# Altium integrated library Infineon_Power_Smart_Low-Side_&_High-Side_Switches.IntLib: 238 symbols (part 2 of 14)
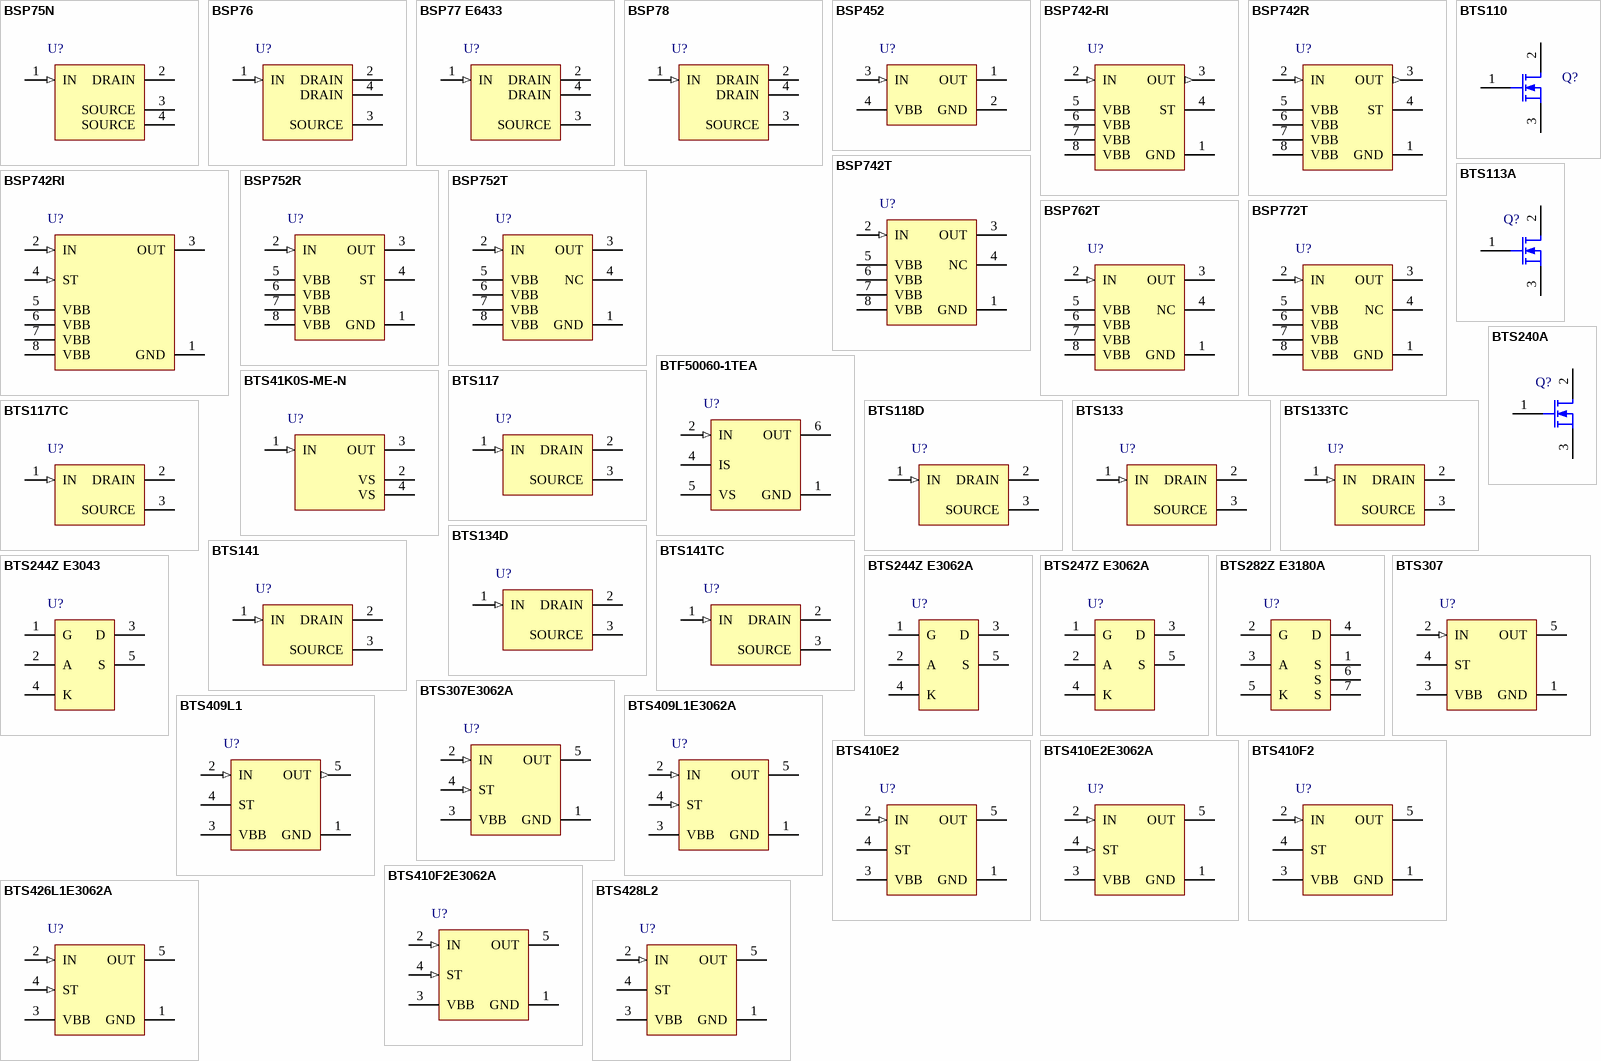
[diagram p8: symbols BSP75N to BTS428L2]

## BTS141TC
designator U?
Smart Low-Side Power Switch HITFET, 60 V VDS, 12 A ID, -40 to 150 degC, PG-TO263-3-2, Reel, Green; Manufacturer: Infineon; PartNumber: BTS141TC; Channels: 1; Green: TRUE; ID: 12 A; ID(nom): 5.1 A; ID(lim) (min): 25 A; ISC (max): 100 A; Ptot (max): 149 mW; RDS (on)(max): 30 mOhm; ton (max): 100 us; toff (max): 170 us; VDS (max): 60 V; DatasheetVersion: Rev. 1.0; PackageVersion: Jul-09; PackageReference: PG-TO263-3-2; PackageDescription: 3-Pin Plastic (Green) Transistor Single Outline Package, 10 x 9.25 mm Body, 2.54 mm Pitch; Supplier 1: Mouser; Supplier Part Number 1: 726-BTS141TC; Supplier 2: Digi-Key; Supplier Part Number 2: BTS141TCTR-ND; Supplier 3: Digi-Key; Supplier Part Number 3: BTS141TCCT-ND; Supplier 4: Digi-Key; Supplier Part Number 4: BTS141TCDKR-ND; Group: HITFET; Halogen-free: FALSE; Packing: Reel; Mounting Technology: Surface Mount; ComponentLink1Description: Manufacturer URL; ComponentLink1URL: http://www.infineon.com/; ComponentLink2Description: Datasheet; ComponentLink2URL: http://www.infineon.com/dgdl/BTS141TC_DS_10.pdf?folderId=db3a3043163797a6011667aa084c0e01&fileId=db3a3043242ebc9e01242f43f58b003e&location=en.Products.Automotive_ICs.Smart_High-_and_Low-Side_Switches.HITFET___TEMPFET__-_Smart_Low-Side_Switches.DATASHEET.BTS141TC_DS_10.pdf; ComponentLink3Description: Package Specification; ComponentLink3URL: http://www.infineon.com/dgdl/BTS141TC_DS_10.pdf?folderId=db3a3043163797a6011667aa084c0e01&fileId=db3a3043242ebc9e01242f43f58b003e&location=en.Products.Automotive_ICs.Smart_High-_and_Low-Side_Switches.HITFET___TEMPFET__-_Smart_Low-Side_Switches.DATASHEET.BTS141TC_DS_10.pdf
footprint INF-PG-TO263-3-2_N (DPAK, 3-Leads, Body 10x9.25mm, Pitch 2.54mm, IPC Medium Density)
footprint INF-PG-TO263-3-2_L (DPAK, 3-Leads, Body 10x9.25mm, Pitch 2.54mm, IPC High Density)
footprint INF-PG-TO263-3-2_M (DPAK, 3-Leads, Body 10x9.25mm, Pitch 2.54mm, IPC Low Density)
pins: 1 IN (in), 2 DRAIN (power), 3 SOURCE (power)

## BTS240A
designator Q?
TEMPFET, 50 V VDS, 58 A ID, -55 to 150 degC, PG-TO-218-3, Tube, Green; Manufacturer: Infineon; PartNumber: BTS240A; Channels: 1; Green: TRUE; ID: 58 A; ID(nom): 21 A; ISC (max): 147 A; Ptot (max): 170 W; RDS (on)(max): 18 mOhm; ton (max): 0.31 us; toff (max): 0.89 us; VDS (max): 50 V; DatasheetVersion: Rev. 1.2; PackageVersion: Jul-10; PackageReference: PG-TO-218-3; PackageDescription: 3-Pin Plastic (Green) Transistor Single Outline Package, 15 x 12.5 mm Body, 5.5 mm Pitch; Supplier 1: Mouser; Supplier Part Number 1: 726-BTS240A; Group: TEMPFET; Halogen-free: FALSE; Packing: Tube; Mounting Technology: Through Hole; ComponentLink1Description: Manufacturer URL; ComponentLink1URL: http://www.infineon.com/; ComponentLink2Description: Datasheet; ComponentLink2URL: http://www.infineon.com/dgdl/BTS240A-Data-Sheet-12.pdf?folderId=db3a304412b407950112b4365a5b65fc&fileId=db3a30433072cd8f0130ac1ef5e3260c&location=en.Products.Automotive_ICs.Smart_High-_and_Low-Side_Switches.HITFET___TEMPFET__-_Smart_Low-Side_Switches.DATASHEET.BTS240A-Data-Sheet-12.pdf; ComponentLink3Description: Package Specification; ComponentLink3URL: http://www.infineon.com/dgdl/BTS240A-Data-Sheet-12.pdf?folderId=db3a304412b407950112b4365a5b65fc&fileId=db3a30433072cd8f0130ac1ef5e3260c&location=en.Products.Automotive_ICs.Smart_High-_and_Low-Side_Switches.HITFET___TEMPFET__-_Smart_Low-Side_Switches.DATASHEET.BTS240A-Data-Sheet-12.pdf
footprint INF-PG-TO-218-3 (FM, 3-Leads, Body 15x4.9mm, Pitch 5.5mm)
pins: 1 G, 2 D, 3 S

## BTS244Z E3043
designator U?
N-Channel Speed TEMPFET, 55 V VDS, 35 A ID, -40 to 175 degC, PG-TO220-5, Tube, Green; Manufacturer: Infineon; PartNumber: BTS244Z E3043; Channels: 1; Green: TRUE; ID(nom): 35 A; Ptot (max): 170 W; RDS (on) (max): 13 mOhm; toff (max): 2.5 us; VDS (max): 55 V; DatasheetVersion: Rev. 1.4; PackageVersion: Oct-07; PackageReference: PG-TO220-5-12; PackageDescription: 5-Pin Plastic (Green) Transistor Single Outline Package, 10 x 9.25 mm Body, 1.7 mm Pitch; Supplier 1: Digi-Key; Supplier Part Number 1: BTS244Z E3043-ND; Halogen-free: TRUE; Mounting: THT; Packing: Tube; Mounting Technology: Through Hole; ComponentLink1Description: Manufacturer URL; ComponentLink1URL: http://www.infineon.com/; ComponentLink2Description: Datasheet; ComponentLink2URL: http://www.infineon.com/dgdl/BTS244Z_DS_14.pdf?folderId=db3a3043163797a6011667aa084c0e01&fileId=db3a3043405f2978014071c7a5c61ff2; ComponentLink3Description: Package Specification; ComponentLink3URL: http://www.infineon.com/cms/packages/Leaded_and_through-hole/P-PG-TO220/P-PG-TO220-5-12.html?__locale=en
footprint INF-PG-TO220-5-12 (FM, 5-Leads, Body 10x4.4mm, Pitch 1.7mm)
pins: 1 G "Gate", 2 A "Anode Temperature Sensor", 3 D "Drain", 4 K "Cathode Temperature Sensor", 5 S "Source"

## BTS244Z E3062A
designator U?
N-Channel Speed TEMPFET, 55 V VDS, 35 A ID, -40 to 175 degC, PG-TO263-5, Tube, Green; Manufacturer: Infineon; PartNumber: BTS244Z E3062A; Channels: 1; Green: TRUE; ID(nom): 35 A; Ptot (max): 170 W; RDS (on) (max): 13 mOhm; toff (max): 2.5 us; VDS (max): 55 V; DatasheetVersion: Rev. 1.4; PackageVersion: Dec-12; PackageReference: PG-TO263-5-2; PackageDescription: 5-Pin Plastic (Green) Transistor Single Outline Package, 10 x 9.25 mm Body, 1.7 mm Pitch; Supplier 1: Digi-Key; Supplier Part Number 1: BTS244Z E3062A-ND; Halogen-free: TRUE; Mounting: SMT; Packing: Tube; Mounting Technology: Surface Mount; ComponentLink1Description: Manufacturer URL; ComponentLink1URL: http://www.infineon.com/; ComponentLink2Description: Datasheet; ComponentLink2URL: http://www.infineon.com/dgdl/BTS244Z_DS_14.pdf?folderId=db3a3043163797a6011667aa084c0e01&fileId=db3a3043405f2978014071c7a5c61ff2; ComponentLink3Description: Package Specification; ComponentLink3URL: http://www.infineon.com/cms/packages/SMD_-_Surface_Mounted_Devices/P-PG-TO263/P-TO263-05-02.html?__locale=en
footprint INF-PG-TO263-5-2_N (DPAK, 5-Leads, Body 10x9.25mm, Pitch 1.7mm, IPC Medium Density)
footprint INF-PG-TO263-5-2_L (DPAK, 5-Leads, Body 10x9.25mm, Pitch 1.7mm, IPC High Density)
footprint INF-PG-TO263-5-2_M (DPAK, 5-Leads, Body 10x9.25mm, Pitch 1.7mm, IPC Low Density)
pins: 1 G "Gate", 2 A "Anode Temperature Sensor", 3 D "Drain", 4 K "Cathode Temperature Sensor", 5 S "Source"

## BTS247Z E3062A
designator U?
N-Channel Speed TEMPFET, 55 V VDS, 33 A ID, -40 to 175 degC, PG-TO263-5, Tube, Green; Manufacturer: Infineon; PartNumber: BTS247Z E3062A; Channels: 1; Green: TRUE; ID(nom): 33 A; Ptot (max): 120 W; RDS (on) (max): 18 mOhm; toff (max): 2.5 us; VDS (max): 55 V; DatasheetVersion: Rev. 1.4; PackageVersion: Dec-12; PackageReference: PG-TO263-5-2; PackageDescription: 5-Pin Plastic (Green) Transistor Single Outline Package, 10 x 9.25 mm Body, 1.7 mm Pitch; Supplier 1: Digi-Key; Supplier Part Number 1: BTS247Z E3062A-ND; Halogen-free: TRUE; Mounting: SMT; Packing: Tube; Mounting Technology: Surface Mount; ComponentLink1Description: Manufacturer URL; ComponentLink1URL: http://www.infineon.com/; ComponentLink2Description: Datasheet; ComponentLink2URL: http://www.infineon.com/dgdl/BTS247Z_DS_14.pdf?folderId=db3a3043163797a6011667aa084c0e01&fileId=db3a3043405f2978014071e40844207f; ComponentLink3Description: Package Specification; ComponentLink3URL: http://www.infineon.com/cms/packages/SMD_-_Surface_Mounted_Devices/P-PG-TO263/P-TO263-05-02.html?__locale=en
footprint INF-PG-TO263-5-2_N (DPAK, 5-Leads, Body 10x9.25mm, Pitch 1.7mm, IPC Medium Density)
footprint INF-PG-TO263-5-2_L (DPAK, 5-Leads, Body 10x9.25mm, Pitch 1.7mm, IPC High Density)
footprint INF-PG-TO263-5-2_M (DPAK, 5-Leads, Body 10x9.25mm, Pitch 1.7mm, IPC Low Density)
pins: 1 G "Gate", 2 A "Anode Temperature Sensor", 3 D "Drain", 4 K "Cathode Temperature Sensor", 5 S "Source"

## BTS282Z E3180A
designator U?
N-Channel Speed TEMPFET, 49 V VDS, 80 A ID, -40 to 175 degC, PG-TO263-7, Tube, Green; Manufacturer: Infineon; PartNumber: BTS282Z E3180A; Channels: 1; Green: TRUE; ID(nom): 80 A; Ptot (max): 300 mW; RDS (on) (max): 6.5 mOhm; toff (max): 2.5 us; VDS (max): 49 V; DatasheetVersion: Rev. 1.3; PackageVersion: May-07; PackageReference: PG-TO263-7-1; PackageDescription: 7-Pin Plastic (Green) Transistor Single Outline Package, 9.25 x 10 mm Body, 1.27 mm Pitch; Supplier 1: Digi-Key; Supplier Part Number 1: BTS282ZE3180AINTR-ND; Supplier 2: Digi-Key; Supplier Part Number 2: BTS282ZE3180AINCT-ND; Supplier 3: Digi-Key; Supplier Part Number 3: BTS282ZE3180AINDKR-ND; Halogen-free: TRUE; Mounting: SMT; Packing: Tube; Mounting Technology: Surface Mount; ComponentLink1Description: Manufacturer URL; ComponentLink1URL: http://www.infineon.com/; ComponentLink2Description: Datasheet; ComponentLink2URL: http://www.infineon.com/dgdl/BTS282Z_DS_13.pdf?folderId=db3a3043163797a6011667aa084c0e01&fileId=db3a3043405f2978014071d29660203c; ComponentLink3Description: Package Specification; ComponentLink3URL: http://www.infineon.com/dgdl/BTN8982TA-Data-Sheet-rev10-Infineon.pdf?folderId=db3a30431ff98815012060aedcd46179&fileId=db3a30433fa9412f013fbe32289b7c17&ack=t
footprint INF-PG-TO263-7-1_N (DPAK, 8-Leads, Body 10x9.25mm, Pitch 1.27mm, IPC Medium Density)
footprint INF-PG-TO263-7-1_L (DPAK, 8-Leads, Body 10x9.25mm, Pitch 1.27mm, IPC High Density)
footprint INF-PG-TO263-7-1_M (DPAK, 8-Leads, Body 10x9.25mm, Pitch 1.27mm, IPC Low Density)
pins: 1 S "Source", 2 G "Gate", 3 A "Anode Temperature Sensor", 4 D "Drain", 5 K "Cathode Temperature Sensor", 6 S "Source", 7 S "Source"

## BTS307
designator U?
Smart High-Side Power Switch, 1 Channel, 1.7 A Load Current, -40 to 150 degC, PG-TO220AB-5, Reel; Manufacturer: Infineon; PartNumber: BTS307; Channels: 1; Green: FALSE; Group: Automotive Qualified; Load Current (typ): 1.7 A; Ptot (max): 50 W; Recommended Operating Voltage Max.: 58 V; Recommended Operating Voltage Min.: 5.8 V; RON @ 25degreesC: 250 mOhm; RON(max) @ 150degreesC: 500 mOhm; toff (max): 70 us; ton (max): 80 us; PackageVersion: Oct-03; PackageReference: PG-TO220AB-5; PackageDescription: 5-Pin Plastic (Green) Transistor Single Outline Package, 9.9 x 9.2 mm Body, 1.7 mm Pitch; Halogen-free: FALSE; Packing: Reel; Mounting Technology: Through Hole; ComponentLink1Description: Manufacturer URL; ComponentLink1URL: http://www.infineon.com/; ComponentLink2Description: Datasheet; ComponentLink2URL: http://www.infineon.com/dgdl/BTS307_20030924.pdf?folderId=db3a30431ddc9372011e26863f92474e&fileId=db3a304331c8f8560131dcc5a8090e17&location=en.Products.Automotive_ICs.Smart_High-_and_Low-Side_Switches.PROFET__-_Smart_High_Side_Switches.DATASHEET.BTS307_20030924.pdf; ComponentLink3Description: Package Specification; ComponentLink3URL: http://www.infineon.com/dgdl/BTS409L1_20030925.pdf?folderId=db3a30431ddc9372011e26863f92474e&fileId=db3a304331c8f8560131dcc7f54e0e1c&sId=db3a30443d67b5ca013d7e6cd96d2ac8
footprint INF-PG-TO220AB-5 (FM, 5-Leads, Body 9.9x4.4mm, Pitch 1.7mm)
pins: 1 GND (power) "Logic ground", 2 IN (in) "Input, activates the power switch in case of logical high signal", 3 VBB (power) "Positive power supply voltage, the tab is shorted to this pin", 4 ST (oc) "Diagnostic feedback, low on failure", 5 OUT (power) "Output to the load"

## BTS307E3062A
designator U?
Smart High-Side Power Switch, 5.8 to 58 V, -40 to 150 degC, PG-TO263-5, Reel, Green; Manufacturer: Infineon; PartNumber: BTS307E3062A; Channels: 1; Diagnostic: Digital; Green: TRUE; IL (nom)min - all channels active: 1.4 A; IL (SCp): 10 A; Load Current (typ): 1.7 A; Ptot (max): 50 W; Recommended Operating Voltage Max.: 58 V; Recommended Operating Voltage Min.: 5.8 V; RON (max) @ Tj: 150degreesC=500 mOhm; RON @ Tj: 25degreesC=250 mOhm; toff (max): 70 us; ton (max): 80 us; PackageVersion: Dec-12; PackageReference: PG-TO263-5-2; PackageDescription: 5-Pin Plastic (Green) Transistor Single Outline Package, 10 x 9.25 mm Body, 1.7 mm Pitch; Mounting: SMT; Packing: Reel; Mounting Technology: Surface Mount; ComponentLink1Description: Manufacturer URL; ComponentLink1URL: http://www.infineon.com/; ComponentLink2Description: Datasheet; ComponentLink2URL: http://www.infineon.com/dgdl/BTS307_20131010.pdf?folderId=db3a30431400ef68011421b54e2e0564&fileId=5546d461463c1ac80146417eaf8870f6; ComponentLink3Description: Package Specification; ComponentLink3URL: http://www.infineon.com/cms/packages/SMD_-_Surface_Mounted_Devices/P-PG-TO263/P-TO263-05-02.html?__locale=en
footprint INF-PG-TO263-5-2_N (DPAK, 5-Leads, Body 10x9.25mm, Pitch 1.7mm, IPC Medium Density)
footprint INF-PG-TO263-5-2_L (DPAK, 5-Leads, Body 10x9.25mm, Pitch 1.7mm, IPC High Density)
footprint INF-PG-TO263-5-2_M (DPAK, 5-Leads, Body 10x9.25mm, Pitch 1.7mm, IPC Low Density)
pins: 1 GND (power) "Logic ground", 2 IN (in) "Input, activates the power switch in case of logical high signal", 3 VBB (power) "Positive power supply voltage, the tab is shorted to this pin", 4 ST (in) "Diagnostic feedback", 5 OUT (power) "Output to the load"

## BTS409L1
designator U?
Smart High-Side Power Switch, 1 Channel, 2.3 A Load Current, -40 to 150 degC, PG-TO220AB-5, Reel; Manufacturer: Infineon; PartNumber: BTS409L1; Channels: 1; Green: FALSE; Group: Automotive Qualified; Load Current (typ): 2.3 A; Recommended Operating Voltage Max.: 34 V; Recommended Operating Voltage Min.: 5 V; RON @ 25degreesC: 200 mOhm; toff (max): 400 us; PackageVersion: Oct-03; PackageReference: PG-TO220AB-5; PackageDescription: 5-Pin Plastic (Green) Transistor Single Outline Package, 9.9 x 9.2 mm Body, 1.7 mm Pitch; Supplier 1: Digi-Key; Supplier Part Number 1: BTS409L1IN-ND; Halogen-free: FALSE; Packing: Reel; ton (max): 400 us; Mounting Technology: Through Hole; ComponentLink1Description: Manufacturer URL; ComponentLink1URL: http://www.infineon.com/; ComponentLink2Description: Datasheet; ComponentLink2URL: http://www.infineon.com/dgdl/BTS409L1_20030925.pdf?folderId=db3a30431ddc9372011e26863f92474e&fileId=db3a304331c8f8560131dcc7f54e0e1c&location=en.Products.Automotive_ICs.Smart_High-_and_Low-Side_Switches.PROFET__-_Smart_High_Side_Switches.DATASHEET.BTS409L1_20030925.pdf; ComponentLink3Description: Package Specification; ComponentLink3URL: http://www.infineon.com/dgdl/BTS409L1_20030925.pdf?folderId=db3a30431ddc9372011e26863f92474e&fileId=db3a304331c8f8560131dcc7f54e0e1c&sId=db3a30443d67b5ca013d7e6cd96d2ac8
footprint INF-PG-TO220AB-5 (FM, 5-Leads, Body 9.9x4.4mm, Pitch 1.7mm)
pins: 1 GND (power) "Logic ground", 2 IN (in) "Input, activates the power switch in case of logical high signal", 3 VBB (power) "Positive power supply voltage, the tab is shorted to this pin", 4 ST (oc) "Diagnostic feedback, low on failure", 5 OUT (out) "Output to the load"

## BTS409L1E3062A
designator U?
Smart High-Side Power Switch, 5 to 34 V, -40 to 150 degC, PG-TO263-5, Reel, Green; Manufacturer: Infineon; PartNumber: BTS409L1E3062A; Channels: 1; Diagnostic: Digital; Green: TRUE; Load Current (typ): 2.3 A; Ptot (max): 18 W; Recommended Operating Voltage Max.: 34 V; Recommended Operating Voltage Min.: 5 V; RON (max) @ Tj: 150degreesC=400 mOhm; RON @ Tj: 25degreesC=200 mOhm; toff (max): 400 us; PackageVersion: Dec-12; PackageReference: PG-TO263-5-2; PackageDescription: 5-Pin Plastic (Green) Transistor Single Outline Package, 10 x 9.25 mm Body, 1.7 mm Pitch; Packing: Reel; ton (max): 400 us; Mounting Technology: Surface Mount; ComponentLink1Description: Manufacturer URL; ComponentLink1URL: http://www.infineon.com/; ComponentLink2Description: Datasheet; ComponentLink2URL: http://www.infineon.com/dgdl/BTS409L1_20131010.pdf?folderId=db3a30431ddc9372011e26863f92474e&fileId=db3a304331c8f8560131dcc7f54e0e1c; ComponentLink3Description: Package Specification; ComponentLink3URL: http://www.infineon.com/cms/packages/SMD_-_Surface_Mounted_Devices/P-PG-TO263/P-TO263-05-02.html?__locale=en
footprint INF-PG-TO263-5-2_N (DPAK, 5-Leads, Body 10x9.25mm, Pitch 1.7mm, IPC Medium Density)
footprint INF-PG-TO263-5-2_L (DPAK, 5-Leads, Body 10x9.25mm, Pitch 1.7mm, IPC High Density)
footprint INF-PG-TO263-5-2_M (DPAK, 5-Leads, Body 10x9.25mm, Pitch 1.7mm, IPC Low Density)
pins: 1 GND (power) "Logic ground", 2 IN (in) "Input, activates the power switch in case of logical high signal", 3 VBB (power) "Positive power supply voltage, the tab is shorted to this pin", 4 ST (in) "Diagnostic feedback", 5 OUT (power) "Output to the load"

## BTS410E2
designator U?
Smart High-Side Power Switch, 1 Channel, 1.8 A Load Current, -40 to 150 degC, PG-TO220AB-5, Reel; Manufacturer: Infineon; PartNumber: BTS410E2; Channels: 1; Green: FALSE; Group: Automotive Qualified; Load Current (typ): 1.8 A; Recommended Operating Voltage Max.: 42 V; Recommended Operating Voltage Min.: 4.7 V; RON @ 25degreesC: 220 mOhm; toff (max): 85 us; ton (max): 125 us; PackageVersion: Oct-03; PackageReference: PG-TO220AB-5; PackageDescription: 5-Pin Plastic (Green) Transistor Single Outline Package, 9.9 x 9.2 mm Body, 1.7 mm Pitch; Supplier 1: Mouser; Supplier Part Number 1: 726-BTS410E2; Supplier 2: Digi-Key; Supplier Part Number 2: BTS410E2IN-ND; Halogen-free: FALSE; Packing: Reel; Mounting Technology: Through Hole; ComponentLink1Description: Manufacturer URL; ComponentLink1URL: http://www.infineon.com/; ComponentLink2Description: Datasheet; ComponentLink2URL: http://www.infineon.com/dgdl/BTS410E2_2003_26_09.pdf?folderId=db3a30431ddc9372011e26863f92474e&fileId=db3a304331c8f8560131dcc9fc520e21&location=en.Products.Automotive_ICs.Smart_High-_and_Low-Side_Switches.PROFET__-_Smart_High_Side_Switches.DATASHEET.BTS410E2_2003_26_09.pdf; ComponentLink3Description: Package Specification; ComponentLink3URL: http://www.infineon.com/dgdl/BTS409L1_20030925.pdf?folderId=db3a30431ddc9372011e26863f92474e&fileId=db3a304331c8f8560131dcc7f54e0e1c&sId=db3a30443d67b5ca013d7e6cd96d2ac8
footprint INF-PG-TO220AB-5 (FM, 5-Leads, Body 9.9x4.4mm, Pitch 1.7mm)
pins: 1 GND (power) "Logic ground", 2 IN (in) "Input, activates the power switch in case of logical high signal", 3 VBB (power) "Positive power supply voltage, the tab is shorted to this pin", 4 ST (oc) "Diagnostic feedback, low on failure", 5 OUT (power) "Output to the load"

## BTS410E2E3062A
designator U?
Smart High-Side Power Switch, 4.7 to 42 V, -40 to 150 degC, PG-TO263-5, Reel, Green; Manufacturer: Infineon; PartNumber: BTS410E2E3062A; Channels: 1; Diagnostic: Digital; Green: TRUE; IL (SCp): 12 A; IL(SC): 5 A; Load Current (typ): 1.8 A; Ptot (max): 50 W; Recommended Operating Voltage Max.: 42 V; Recommended Operating Voltage Min.: 4.7 V; RON (max) @ Tj: 150degreesC=440 mOhm; RON @ Tj: 25degreesC=220 mOhm; toff (max): 85 us; ton (max): 125 us; PackageVersion: Dec-12; PackageReference: PG-TO263-5-2; PackageDescription: 5-Pin Plastic (Green) Transistor Single Outline Package, 10 x 9.25 mm Body, 1.7 mm Pitch; Packing: Reel; Mounting Technology: Surface Mount; ComponentLink1Description: Manufacturer URL; ComponentLink1URL: http://www.infineon.com/; ComponentLink2Description: Datasheet; ComponentLink2URL: http://www.infineon.com/dgdl/BTS410E2_20131010.pdf?folderId=db3a30431ddc9372011e26863f92474e&fileId=db3a304331c8f8560131dcc9fc520e21; ComponentLink3Description: Package Specification; ComponentLink3URL: http://www.infineon.com/cms/packages/SMD_-_Surface_Mounted_Devices/P-PG-TO263/P-TO263-05-02.html?__locale=en
footprint INF-PG-TO263-5-2_N (DPAK, 5-Leads, Body 10x9.25mm, Pitch 1.7mm, IPC Medium Density)
footprint INF-PG-TO263-5-2_L (DPAK, 5-Leads, Body 10x9.25mm, Pitch 1.7mm, IPC High Density)
footprint INF-PG-TO263-5-2_M (DPAK, 5-Leads, Body 10x9.25mm, Pitch 1.7mm, IPC Low Density)
pins: 1 GND (power) "Logic ground", 2 IN (in) "Input, activates the power switch in case of logical high signal", 3 VBB (power) "Positive power supply voltage, the tab is shorted to this pin", 4 ST (in) "Diagnostic feedback", 5 OUT (power) "Output to the load"

## BTS410F2
designator U?
Smart High-Side Power Switch, 1 Channel, 1.8 A Load Current, -40 to 150 degC, PG-TO220AB-5, Reel; Manufacturer: Infineon; PartNumber: BTS410F2; Channels: 1; Green: FALSE; Group: Automotive Qualified; Load Current (typ): 1.8 A; Recommended Operating Voltage Max.: 42 V; Recommended Operating Voltage Min.: 4.7 V; RON @ 25degreesC: 220 mOhm; toff (max): 85 us; ton (max): 125 us; PackageVersion: Oct-03; PackageReference: PG-TO220AB-5; PackageDescription: 5-Pin Plastic (Green) Transistor Single Outline Package, 9.9 x 9.2 mm Body, 1.7 mm Pitch; Supplier 1: Mouser; Supplier Part Number 1: 726-BTS410F2; Supplier 2: Digi-Key; Supplier Part Number 2: BTS410F2IN-ND; Halogen-free: FALSE; Packing: Reel; Mounting Technology: Through Hole; ComponentLink1Description: Manufacturer URL; ComponentLink1URL: http://www.infineon.com/; ComponentLink2Description: Datasheet; ComponentLink2URL: http://www.infineon.com/dgdl/BTS410F2_20030925.pdf?folderId=db3a30431ddc9372011e26863f92474e&fileId=db3a304331c8f8560131dccbcf420e26&location=en.Products.Automotive_ICs.Smart_High-_and_Low-Side_Switches.PROFET__-_Smart_High_Side_Switches.DATASHEET.BTS410F2_20030925.pdf; ComponentLink3Description: Package Specification; ComponentLink3URL: http://www.infineon.com/dgdl/BTS409L1_20030925.pdf?folderId=db3a30431ddc9372011e26863f92474e&fileId=db3a304331c8f8560131dcc7f54e0e1c&sId=db3a30443d67b5ca013d7e6cd96d2ac8
footprint INF-PG-TO220AB-5 (FM, 5-Leads, Body 9.9x4.4mm, Pitch 1.7mm)
pins: 1 GND (power) "Logic ground", 2 IN (in) "Input, activates the power switch in case of logical high signal", 3 VBB (power) "Positive power supply voltage, the tab is shorted to this pin", 4 ST (oc) "Diagnostic feedback, low on failure", 5 OUT (power) "Output to the load"

## BTS410F2E3062A
designator U?
Smart High-Side Power Switch, 4.7 to 42 V, -40 to 150 degC, PG-TO263-5, Reel, Green; Manufacturer: Infineon; PartNumber: BTS410F2E3062A; Channels: 1; Diagnostic: Digital; Green: TRUE; IL (nom)min - all channels active: 1.6 A; IL (SCp): 5.5 A; IL(SC): 2.7 A; Load Current (typ): 1.8 A; Ptot (max): 50 W; Recommended Operating Voltage Max.: 42 V; Recommended Operating Voltage Min.: 4.7 V; RON (max) @ Tj: 150degreesC=440 mOhm; RON @ Tj: 25degreesC=220 mOhm; toff (max): 85 us; ton (max): 125 us; PackageVersion: Dec-12; PackageReference: PG-TO263-5-2; PackageDescription: 5-Pin Plastic (Green) Transistor Single Outline Package, 10 x 9.25 mm Body, 1.7 mm Pitch; Packing: Reel; Mounting Technology: Surface Mount; ComponentLink1Description: Manufacturer URL; ComponentLink1URL: http://www.infineon.com/; ComponentLink2Description: Datasheet; ComponentLink2URL: http://www.infineon.com/dgdl/BTS410F2_20131010.pdf?folderId=db3a30431ddc9372011e26863f92474e&fileId=db3a304331c8f8560131dccbcf420e26; ComponentLink3Description: Package Specification; ComponentLink3URL: http://www.infineon.com/cms/packages/SMD_-_Surface_Mounted_Devices/P-PG-TO263/P-TO263-05-02.html?__locale=en
footprint INF-PG-TO263-5-2_N (DPAK, 5-Leads, Body 10x9.25mm, Pitch 1.7mm, IPC Medium Density)
footprint INF-PG-TO263-5-2_L (DPAK, 5-Leads, Body 10x9.25mm, Pitch 1.7mm, IPC High Density)
footprint INF-PG-TO263-5-2_M (DPAK, 5-Leads, Body 10x9.25mm, Pitch 1.7mm, IPC Low Density)
pins: 1 GND (power) "Logic ground", 2 IN (in) "Input, activates the power switch in case of logical high signal", 3 VBB (power) "Positive power supply voltage, the tab is shorted to this pin", 4 ST (in) "Diagnostic feedback", 5 OUT (power) "Output to the load"

## BTS426L1E3062A
designator U?
Smart High-Side Power Switch, 5 to 34 V, -40 to 150 degC, PG-TO263-5, Reel, Green; Manufacturer: Infineon; PartNumber: BTS426L1E3062A; Channels: 1; Diagnostic: Digital; Green: TRUE; IL (SCp): 25 A; IL(SC): 16 A; Load Current (typ): 7 A; Ptot (max): 75 W; Recommended Operating Voltage Max.: 34 V; Recommended Operating Voltage Min.: 5 V; RON (max) @ Tj: 150degreesC=120 mOhm; RON @ Tj: 25degreesC=60 mOhm; toff (max): 450 us; ton (max): 400 us; PackageVersion: Dec-12; PackageReference: PG-TO263-5-2; PackageDescription: 5-Pin Plastic (Green) Transistor Single Outline Package, 10 x 9.25 mm Body, 1.7 mm Pitch; Packing: Reel; Mounting Technology: Surface Mount; ComponentLink1Description: Manufacturer URL; ComponentLink1URL: http://www.infineon.com/; ComponentLink2Description: Datasheet; ComponentLink2URL: http://www.infineon.com/dgdl/BTS426L1_20131010.pdf?folderId=db3a30431400ef68011421b54e2e0564&fileId=5546d461463c1ac80146419c8a3f718d; ComponentLink3Description: Package Specification; ComponentLink3URL: http://www.infineon.com/cms/packages/SMD_-_Surface_Mounted_Devices/P-PG-TO263/P-TO263-05-02.html?__locale=en
footprint INF-PG-TO263-5-2_N (DPAK, 5-Leads, Body 10x9.25mm, Pitch 1.7mm, IPC Medium Density)
footprint INF-PG-TO263-5-2_L (DPAK, 5-Leads, Body 10x9.25mm, Pitch 1.7mm, IPC High Density)
footprint INF-PG-TO263-5-2_M (DPAK, 5-Leads, Body 10x9.25mm, Pitch 1.7mm, IPC Low Density)
pins: 1 GND (power) "Logic ground", 2 IN (in) "Input, activates the power switch in case of logical high signal", 3 VBB (power) "Positive power supply voltage, the tab is shorted to this pin", 4 ST (in) "Diagnostic feedback", 5 OUT (power) "Output to the load"

## BTS428L2
designator U?
Smart High-Side Power Switch, 1 Channel, 5.8 A Load Current, -40 to 150 degC, PG-TO252-5-11, Reel, Green; Manufacturer: Infineon; PartNumber: BTS428L2; Channels: 1; Green: TRUE; Group: Automotive Qualified; Load Current (typ): 5.8 A; Ptot (max): 75 W; Recommended Operating Voltage Max.: 41 V; Recommended Operating Voltage Min.: 4.75 V; RON @ 25degreesC: 60 mOhm; RON(max) @ 150degreesC: 120 mOhm; toff (max): 200 us; DatasheetVersion: Rev. 1.1; PackageVersion: Nov-10; PackageReference: PG-TO252-5-11; PackageDescription: 5-Pin Plastic (Green) Transistor Single Outline Package, 6.5 x 6.12 mm Body, 1.14 mm Pitch; Supplier 1: Mouser; Supplier Part Number 1: 726-BTS428L2; Supplier 2: Newark; Supplier Part Number 2: 78X4828; Supplier 3: Farnell; Supplier Part Number 3: 2432486; Supplier 4: Digi-Key; Supplier Part Number 4: BTS428L2INTR-ND; Supplier 5: Digi-Key; Supplier Part Number 5: BTS428L2INCT-ND; Supplier 6: Digi-Key; Supplier Part Number 6: BTS428L2INDKR-ND; Halogen-free: TRUE; Packing: Reel; ton (max): 200 us; Mounting Technology: Surface Mount; ComponentLink1Description: Manufacturer URL; ComponentLink1URL: http://www.infineon.com/; ComponentLink2Description: Datasheet; ComponentLink2URL: http://www.infineon.com/dgdl/BTS428L2.pdf?folderId=db3a304317a748360117eee5521349bb&fileId=db3a30431936bc4b011960b3910b2c51&location=en.Products.Automotive_ICs.Smart_High-_and_Low-Side_Switches.PROFET__-_Smart_High_Side_Switches.DATASHEET.BTS428L2.pdf; ComponentLink3Description: Package Specification; ComponentLink3URL: http://www.infineon.com/dgdl/TLE7276-Data+Sheet-+v1_11.pdf?folderId=db3a304412b407950112b408e8c90004&fileId=db3a304412b407950112b436c53f66c8&sId=db3a30433db6f09f013dc0e43c0428c1
footprint INF-PG-TO252-5-11_N (DPAK, 5-Leads, Body 6.5x6.12mm, Pitch 1.14mm, IPC Medium Density)
footprint INF-PG-TO252-5-11_L (DPAK, 5-Leads, Body 6.5x6.12mm, Pitch 1.14mm, IPC High Density)
footprint INF-PG-TO252-5-11_M (DPAK, 5-Leads, Body 6.5x6.12mm, Pitch 1.14mm, IPC Low Density)
pins: 1 GND (power) "Logic ground.", 2 IN (in) "Input, activates the power switch in case of logical signal.", 3 VBB (power) "Positive power supply voltage, the tab is shorted to this pin", 4 ST (oc) "Diagnostic feedback", 5 OUT (power) "Output to the load."

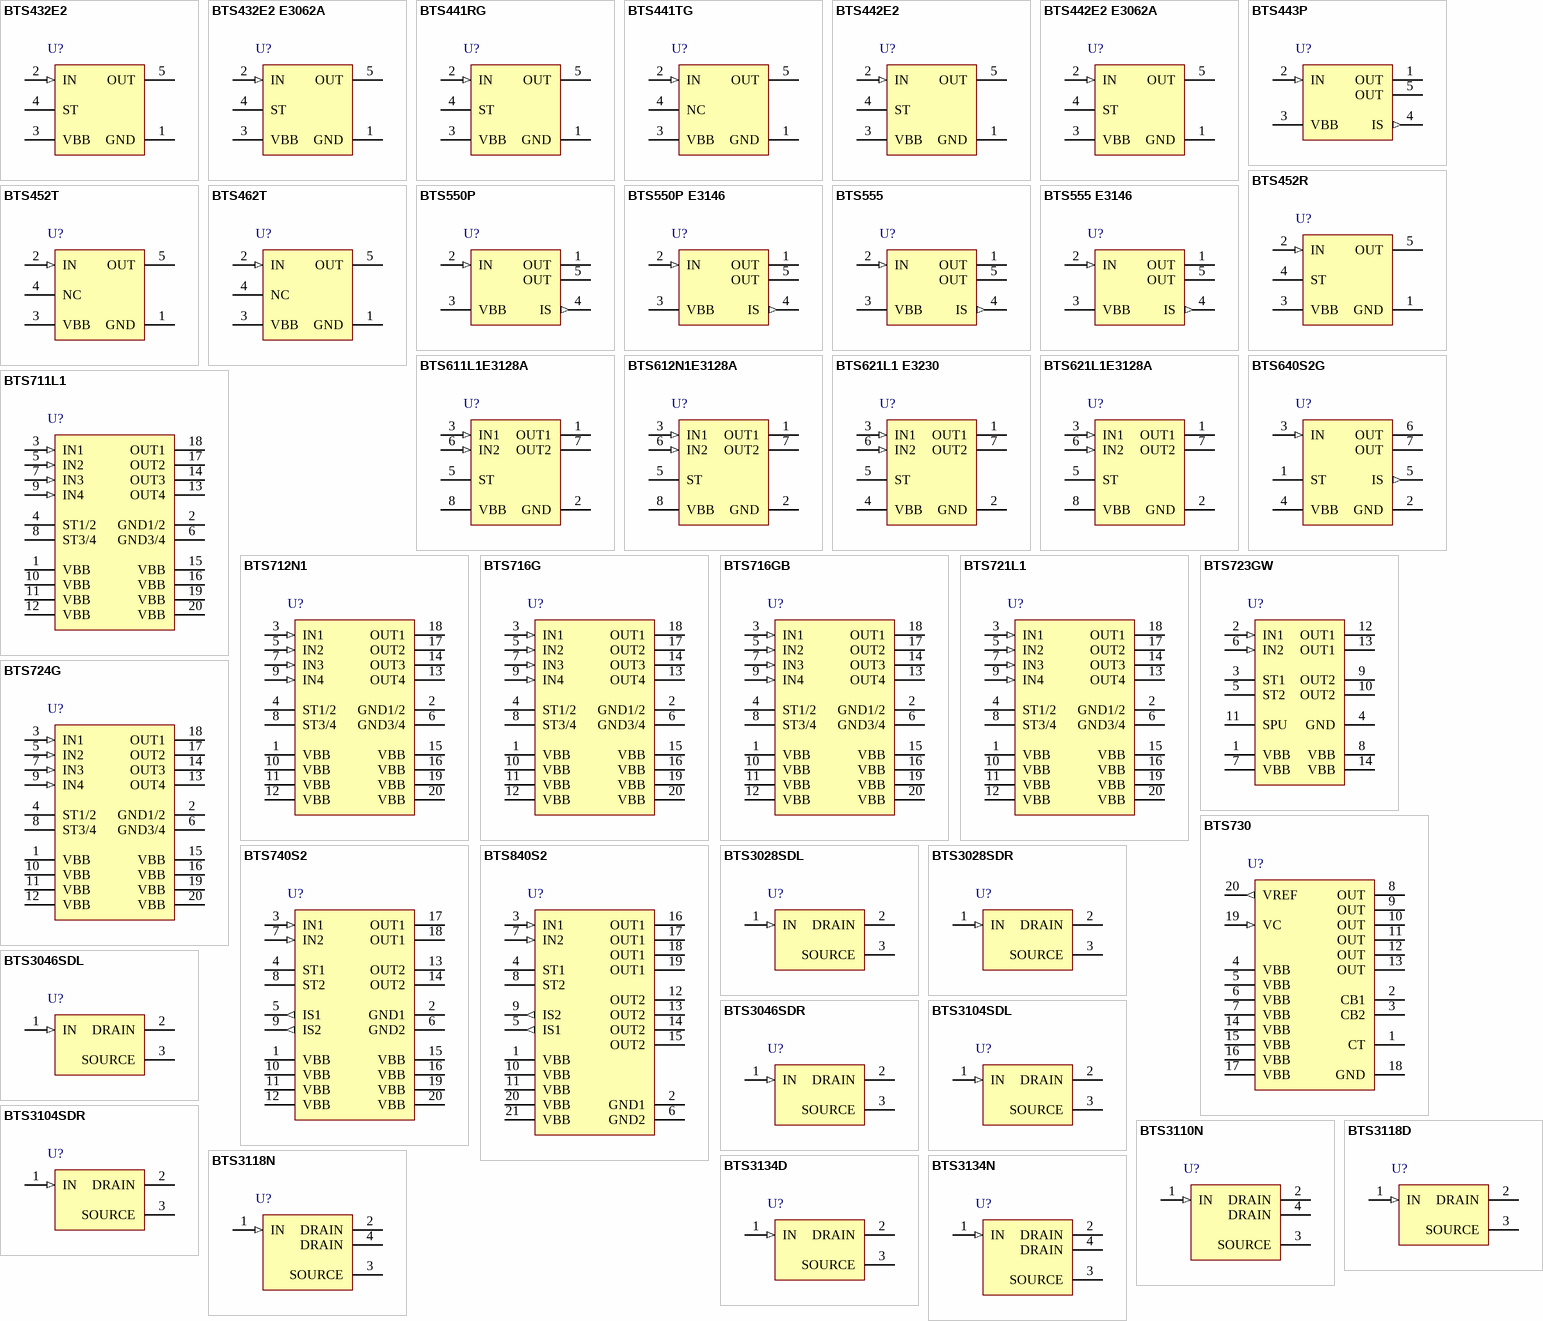
[diagram p1: symbols BTS432E2 to BTS3134N]

## BTS432E2
designator U?
Smart High-Side Power Switch, 1 Channel, 5 A Load Current, -40 to 150 degC, PG-TO220AB-5, Tube; Manufacturer: Infineon; PartNumber: BTS432E2; Channels: 1; Green: FALSE; Group: Automotive Qualified; Load Current (typ): 5 A; Recommended Operating Voltage Max.: 42 V; Recommended Operating Voltage Min.: 4.5 V; RON @ 25degreesC: 38 mOhm; RON(max) @ 150degreesC: 70 mOhm; PackageVersion: Oct-03; PackageReference: PG-TO220AB-5; PackageDescription: 5-Pin Plastic (Green) Transistor Single Outline Package, 9.9 x 9.2 mm Body, 1.7 mm Pitch; Supplier 1: Mouser; Supplier Part Number 1: 726-BTS432E2; Supplier 2: Digi-Key; Supplier Part Number 2: BTS432E2IN-ND; Halogen-free: FALSE; Packing: Tube; Mounting Technology: Through Hole; ComponentLink1Description: Manufacturer URL; ComponentLink1URL: http://www.infineon.com/; ComponentLink2Description: Datasheet; ComponentLink2URL: http://www.infineon.com/dgdl/BTS432E2_20030926.pdf?folderId=db3a304314dca389011537739e37155f&fileId=db3a3043183a9555011860d5d68436fb&location=en.Products.Automotive_ICs.Smart_High-_and_Low-Side_Switches.PROFET__-_Smart_High_Side_Switches.DATASHEET.BTS432E2_20030926.pdf; ComponentLink3Description: Package Specification; ComponentLink3URL: http://www.infineon.com/dgdl/BTS409L1_20030925.pdf?folderId=db3a30431ddc9372011e26863f92474e&fileId=db3a304331c8f8560131dcc7f54e0e1c&sId=db3a30443d67b5ca013d7e6cd96d2ac8
footprint INF-PG-TO220AB-5 (FM, 5-Leads, Body 9.9x4.4mm, Pitch 1.7mm)
pins: 1 GND (power) "Logic ground", 2 IN (in) "Input, activates the power switch in case of logical high signal", 3 VBB (power) "Positive power supply voltage, the tab is shorted to this pin", 4 ST (oc) "Diagnostic feedback, low on failure", 5 OUT (power) "Output to the load"

## BTS432E2 E3062A
designator U?
Smart High-Side Power Switch, 1 Channel, 5 A Load Current, -40 to 150 degC, PG-TO263-5-2, Reel, Green; Manufacturer: Infineon; PartNumber: BTS432E2 E3062A; Channels: 1; Green: TRUE; Group: Automotive Qualified; Load Current (typ): 5 A; Recommended Operating Voltage Max.: 42 V; Recommended Operating Voltage Min.: 4.5 V; RON @ 25degreesC: 38 mOhm; RON(max) @ 150degreesC: 70 mOhm; DatasheetVersion: Rev. 1.1; PackageVersion: Dec-12; PackageReference: PG-TO263-5-2; PackageDescription: 5-Pin Plastic (Green) Transistor Single Outline Package, 10 x 9.25 mm Body, 1.7 mm Pitch; Supplier 1: Newark; Supplier Part Number 1: 78X4829; Supplier 2: Farnell; Supplier Part Number 2: 2432487; Supplier 3: Digi-Key; Supplier Part Number 3: BTS432E2E3062AINTR-ND; Supplier 4: Digi-Key; Supplier Part Number 4: BTS432E2E3062AINCT-ND; Supplier 5: Digi-Key; Supplier Part Number 5: BTS432E2E3062AINDKR-ND; Halogen-free: FALSE; Packing: Reel; Mounting Technology: Surface Mount; ComponentLink1Description: Manufacturer URL; ComponentLink1URL: http://www.infineon.com/; ComponentLink2Description: Datasheet; ComponentLink2URL: http://www.infineon.com/dgdl/BTS432E2_DS_v11.pdf?folderId=db3a304314dca389011537739e37155f&fileId=db3a304326623792012688c5622b6cb7&location=en.Products.Automotive_ICs.Smart_High-_and_Low-Side_Switches.PROFET__-_Smart_High_Side_Switches.DATASHEET.BTS432E2_DS_v11.pdf; ComponentLink3Description: Package Specification; ComponentLink3URL: http://www.infineon.com/dgdl/BTS441RG-DS-12-12-06-Infineon.pdf?folderId=db3a304317a748360117eee5521349bb&fileId=db3a30431ed1d7b2011f473662665709&sId=db3a30433d68e984013d844da4de7bf6
footprint INF-PG-TO263-5-2_N (DPAK, 5-Leads, Body 10x9.25mm, Pitch 1.7mm, IPC Medium Density)
footprint INF-PG-TO263-5-2_L (DPAK, 5-Leads, Body 10x9.25mm, Pitch 1.7mm, IPC High Density)
footprint INF-PG-TO263-5-2_M (DPAK, 5-Leads, Body 10x9.25mm, Pitch 1.7mm, IPC Low Density)
pins: 1 GND (power) "Logic ground.", 2 IN (in) "Input, activates the power switch in case of logical signal.", 3 VBB (power) "Positive power supply voltage, the tab is shorted to this pin", 4 ST (oc) "Diagnostic feedback", 5 OUT (power) "Output to the load."

## BTS441RG
designator U?
Smart Power High-Side-Switch, 1 Channel, 17 A Load Current, -40 to 150 degC, PG-TO263-5-2, Reel, Green; Manufacturer: Infineon; PartNumber: BTS441RG; Channels: 1; Green: TRUE; Group: Automotive Qualified; Load Current (typ): 17 A; Ptot (max): 125 mW; Recommended Operating Voltage Max.: 41 V; Recommended Operating Voltage Min.: 4.75 V; RON @ 25degreesC: 20 mOhm; RON(max) @ 150degreesC: 37 mOhm; toff (max): 250 us; ton (max): 200 us; DatasheetVersion: Rev. 1.21; PackageVersion: Dec-12; PackageReference: PG-TO263-5-2; PackageDescription: 5-Pin Plastic (Green) Transistor Single Outline Package, 10 x 9.25 mm Body, 1.7 mm Pitch; Supplier 1: Mouser; Supplier Part Number 1: 726-BTS441RG; Supplier 2: Digi-Key; Supplier Part Number 2: BTS441RGTR-ND; Supplier 3: Digi-Key; Supplier Part Number 3: BTS441RGCT-ND; Supplier 4: Digi-Key; Supplier Part Number 4: BTS441RGDKR-ND; Halogen-free: TRUE; Packing: Reel; Mounting Technology: Surface Mount; ComponentLink1Description: Manufacturer URL; ComponentLink1URL: http://www.infineon.com/; ComponentLink2Description: Datasheet; ComponentLink2URL: http://www.infineon.com/dgdl/BTS441RG-DS-12-12-06-Infineon.pdf?folderId=db3a304317a748360117eee5521349bb&fileId=db3a30431ed1d7b2011f473662665709&location=en.Products.Automotive_ICs.Smart_High-_and_Low-Side_Switches.PROFET__-_Smart_High_Side_Switches.DATASHEET.BTS441RG-DS-12-12-06-Infineon.pdf; ComponentLink3Description: Package Specification; ComponentLink3URL: http://www.infineon.com/dgdl/BTS441RG-DS-12-12-06-Infineon.pdf?folderId=db3a304317a748360117eee5521349bb&fileId=db3a30431ed1d7b2011f473662665709&sId=db3a30433d68e984013d844da4de7bf6
footprint INF-PG-TO263-5-2_N (DPAK, 5-Leads, Body 10x9.25mm, Pitch 1.7mm, IPC Medium Density)
footprint INF-PG-TO263-5-2_L (DPAK, 5-Leads, Body 10x9.25mm, Pitch 1.7mm, IPC High Density)
footprint INF-PG-TO263-5-2_M (DPAK, 5-Leads, Body 10x9.25mm, Pitch 1.7mm, IPC Low Density)
pins: 1 GND (power) "Logic ground.", 2 IN (in) "Input, activates the power switch in case of logical signal.", 3 VBB (power) "Positive power supply voltage, the tab is shorted to this pin", 4 ST (oc) "Diagnostic feedback", 5 OUT (power) "Output to the load."

## BTS441TG
designator U?
Smart Power High-Side-Switch, 1 Channel, 17 A Load Current, -40 to 150 degC, PG-TO263-5-2, Reel, Green; Manufacturer: Infineon; PartNumber: BTS441TG; Channels: 1; Green: TRUE; Group: Automotive Qualified; Load Current (typ): 17 A; Ptot (max): 125 W; Recommended Operating Voltage Max.: 41 V; Recommended Operating Voltage Min.: 4.75 V; RON @ 25degreesC: 20 mOhm; RON(max) @ 150degreesC: 37 mOhm; toff (max): 250 us; ton (max): 200 us; DatasheetVersion: Rev. 1.21; PackageVersion: Dec-12; PackageReference: PG-TO263-5-2; PackageDescription: 5-Pin Plastic (Green) Transistor Single Outline Package, 10 x 9.25 mm Body, 1.7 mm Pitch; Supplier 1: Mouser; Supplier Part Number 1: 726-BTS441TG; Supplier 2: Newark; Supplier Part Number 2: 78X4830; Supplier 3: Farnell; Supplier Part Number 3: 2432488; Supplier 4: Digi-Key; Supplier Part Number 4: BTS441TGTR-ND; Supplier 5: Digi-Key; Supplier Part Number 5: BTS441TGCT-ND; Supplier 6: Digi-Key; Supplier Part Number 6: BTS441TGDKR-ND; Halogen-free: TRUE; Packing: Reel; Mounting Technology: Surface Mount; ComponentLink1Description: Manufacturer URL; ComponentLink1URL: http://www.infineon.com/; ComponentLink2Description: Datasheet; ComponentLink2URL: http://www.infineon.com/dgdl/BTS441TG-DS-12-12-06-Infineon.pdf?folderId=db3a304412b407950112b428ec433eb8&fileId=db3a304412b407950112b428ecb03eb9&location=en.Products.Automotive_ICs.Smart_High-_and_Low-Side_Switches.PROFET__-_Smart_High_Side_Switches.DATASHEET.BTS441TG-DS-12-12-06-Infineon.pdf; ComponentLink3Description: Package Specification; ComponentLink3URL: http://www.infineon.com/dgdl/BTS441RG-DS-12-12-06-Infineon.pdf?folderId=db3a304317a748360117eee5521349bb&fileId=db3a30431ed1d7b2011f473662665709&sId=db3a30433d68e984013d844da4de7bf6
footprint INF-PG-TO263-5-2_N (DPAK, 5-Leads, Body 10x9.25mm, Pitch 1.7mm, IPC Medium Density)
footprint INF-PG-TO263-5-2_L (DPAK, 5-Leads, Body 10x9.25mm, Pitch 1.7mm, IPC High Density)
footprint INF-PG-TO263-5-2_M (DPAK, 5-Leads, Body 10x9.25mm, Pitch 1.7mm, IPC Low Density)
pins: 1 GND (power) "Logic ground.", 2 IN (in) "Input, activates the power switch in case of logical high signal.", 3 VBB (power) "Positive power supply voltage.", 4 NC "Not connected.", 5 OUT (power) "Output to the load."

## BTS442E2
designator U?
Smart High-Side Power Switch, 1 Channel, 7.5 A Load Current, -40 to 150 degC, PG-TO220-5-3, Tube, Green; Manufacturer: Infineon; PartNumber: BTS442E2; Channels: 1; Green: TRUE; Group: Automotive Qualified; Load Current (typ): 7.5 A; Recommended Operating Voltage Max.: 42 V; Recommended Operating Voltage Min.: 4.5 V; RON @ 25degreesC: 18 mOhm; RON(max) @ 150degreesC: 35 mOhm; PackageVersion: Dec-09; PackageReference: PG-TO220-5-3; PackageDescription: 5-Pin Plastic (Green) Transistor Single Outline Package, 9.9 x 9.2 mm Body, 1.7 mm Pitch; Supplier 1: Mouser; Supplier Part Number 1: 726-BTS442E2; Supplier 2: Newark; Supplier Part Number 2: 78X4831; Supplier 3: Farnell; Supplier Part Number 3: 2432489; Supplier 4: Digi-Key; Supplier Part Number 4: BTS442E2IN-ND; Halogen-free: FALSE; Packing: Tube; Mounting Technology: Through Hole; ComponentLink1Description: Manufacturer URL; ComponentLink1URL: http://www.infineon.com/; ComponentLink2Description: Datasheet; ComponentLink2URL: http://www.infineon.com/dgdl/BTS442E2_20030926.pdf?folderId=db3a304314dca38901152836c5a412ab&fileId=db3a3043183a9555011860d889f83705&location=en.Products.Automotive_ICs.Smart_High-_and_Low-Side_Switches.PROFET__-_Smart_High_Side_Switches.DATASHEET.BTS442E2_20030926.pdf; ComponentLink3Description: Package Specification; ComponentLink3URL: http://www.infineon.com/dgdl/BTS244Z_DS_13.pdf?folderId=db3a3043163797a6011667aa084c0e01&fileId=db3a30432239cccd0123050be0506f14&location=en.Products.Automotive_ICs.Smart_High-_and_Low-Side_Switches.HITFET___TEMPFET__-_Smart_Low-Side_Switches.DATASHEET.BTS244Z_DS_13.pdf
footprint INF-PG-TO220-5-3 (FM, 5-Leads, Body 9.9x4.4mm, Pitch 1.7mm)
pins: 1 GND (power) "Logic ground", 2 IN (in) "Input, activates the power switch in case of logical high signal", 3 VBB (power) "Positive power supply voltage, the tab is shorted to this pin", 4 ST (oc) "Diagnostic feedback, low on failure", 5 OUT (power) "Output to the load"

## BTS442E2 E3062A
designator U?
Smart High-Side Power Switch, 1 Channel, 7.5 A Load Current, -40 to 150 degC, PG-TO263-5-2, Reel, Green; Manufacturer: Infineon; PartNumber: BTS442E2 E3062A; Channels: 1; Green: TRUE; Group: Automotive Qualified; Load Current (typ): 7.5 A; Recommended Operating Voltage Max.: 42 V; Recommended Operating Voltage Min.: 4.5 V; RON @ 25degreesC: 18 mOhm; RON(max) @ 150degreesC: 35 mOhm; DatasheetVersion: Rev. 1.1; PackageVersion: Dec-12; PackageReference: PG-TO263-5-2; PackageDescription: 5-Pin Plastic (Green) Transistor Single Outline Package, 10 x 9.25 mm Body, 1.7 mm Pitch; Supplier 1: Mouser; Supplier Part Number 1: 726-BTS442E2E3062A; Supplier 2: Newark; Supplier Part Number 2: 78X4832; Supplier 3: Farnell; Supplier Part Number 3: 2432490; Supplier 4: Digi-Key; Supplier Part Number 4: BTS442E2 E3062ATR-ND; Supplier 5: Digi-Key; Supplier Part Number 5: BTS442E2 E3062ACT-ND; Supplier 6: Digi-Key; Supplier Part Number 6: BTS442E2 E3062ADKR-ND; Halogen-free: FALSE; Packing: Reel; Mounting Technology: Surface Mount; ComponentLink1Description: Manufacturer URL; ComponentLink1URL: http://www.infineon.com/; ComponentLink2Description: Datasheet; ComponentLink2URL: http://www.infineon.com/dgdl/BTS442E2_DS_v11.pdf?folderId=db3a304314dca389011537739e37155f&fileId=db3a304326623792012688c19eed6cb2&location=en.Products.Automotive_ICs.Smart_High-_and_Low-Side_Switches.PROFET__-_Smart_High_Side_Switches.DATASHEET.BTS442E2_DS_v11.pdf; ComponentLink3Description: Package Specification; ComponentLink3URL: http://www.infineon.com/dgdl/BTS441RG-DS-12-12-06-Infineon.pdf?folderId=db3a304317a748360117eee5521349bb&fileId=db3a30431ed1d7b2011f473662665709&sId=db3a30433d68e984013d844da4de7bf6
footprint INF-PG-TO263-5-2_N (DPAK, 5-Leads, Body 10x9.25mm, Pitch 1.7mm, IPC Medium Density)
footprint INF-PG-TO263-5-2_L (DPAK, 5-Leads, Body 10x9.25mm, Pitch 1.7mm, IPC High Density)
footprint INF-PG-TO263-5-2_M (DPAK, 5-Leads, Body 10x9.25mm, Pitch 1.7mm, IPC Low Density)
pins: 1 GND (power) "Logic ground.", 2 IN (in) "Input, activates the power switch in case of logical signal.", 3 VBB (power) "Positive power supply voltage, the tab is shorted to this pin", 4 ST (oc) "Diagnostic feedback", 5 OUT (power) "Output to the load."

## BTS443P
designator U?
Smart High-Side Power Switch, 1 Channel, 7.6 A Load Current, -40 to 150 degC, PG-TO252-5-11, Reel, Green; Manufacturer: Infineon; PartNumber: BTS443P; Channels: 1; Green: TRUE; Group: Automotive Qualified; Load Current (typ): 7.6 A; Ptot (max): 42 W; Recommended Operating Voltage Max.: 36 V; Recommended Operating Voltage Min.: 5 V; RON @ 25degreesC: 16 mOhm; RON(max) @ 150degreesC: 31 mOhm; toff (max): 410 us; DatasheetVersion: Rev. 1.0; PackageVersion: Nov-10; PackageReference: PG-TO252-5-11; PackageDescription: 5-Pin Plastic (Green) Transistor Single Outline Package, 6.5 x 6.12 mm Body, 1.14 mm Pitch; Supplier 1: Mouser; Supplier Part Number 1: 726-BTS443P; Supplier 2: Newark; Supplier Part Number 2: 58M4071; Supplier 3: Farnell; Supplier Part Number 3: 1440808; Supplier 4: Farnell; Supplier Part Number 4: 1440808RL; Supplier 5: Digi-Key; Supplier Part Number 5: BTS443PINTR-ND; Supplier 6: Digi-Key; Supplier Part Number 6: BTS443PINCT-ND; Supplier 7: Digi-Key; Supplier Part Number 7: BTS443PINDKR-ND; Halogen-free: TRUE; Packing: Reel; ton (max): 410 us; Mounting Technology: Surface Mount; ComponentLink1Description: Manufacturer URL; ComponentLink1URL: http://www.infineon.com/; ComponentLink2Description: Datasheet; ComponentLink2URL: http://www.infineon.com/dgdl/BTS443P_DS_v10.pdf?folderId=db3a304314dca389011537739e37155f&fileId=db3a3043183a9555011860442f5b3616&location=en.Products.Automotive_ICs.Smart_High-_and_Low-Side_Switches.PROFET__-_Smart_High_Side_Switches.DATASHEET.BTS443P_DS_v10.pdf; ComponentLink3Description: Package Specification; ComponentLink3URL: http://www.infineon.com/dgdl/TLE7276-Data+Sheet-+v1_11.pdf?folderId=db3a304412b407950112b408e8c90004&fileId=db3a304412b407950112b436c53f66c8&sId=db3a30433db6f09f013dc0e43c0428c1
footprint INF-PG-TO252-5-11_N (DPAK, 5-Leads, Body 6.5x6.12mm, Pitch 1.14mm, IPC Medium Density)
footprint INF-PG-TO252-5-11_L (DPAK, 5-Leads, Body 6.5x6.12mm, Pitch 1.14mm, IPC High Density)
footprint INF-PG-TO252-5-11_M (DPAK, 5-Leads, Body 6.5x6.12mm, Pitch 1.14mm, IPC Low Density)
pins: 1 OUT (power) "Output to the load. The pin 1 and 5 must be shorted with each other especially in high current applications!)", 2 IN (in) "Input, activates the power switch in case of short to ground", 3 VBB (power) "Positive power supply voltage, the tab is shorted to this pin.", 4 IS (out) "Diagnostic feedback providing a sense current proportional to the load current; high current on failure (see Truth Table on page 6)", 5 OUT (power) "Output to the load. The pin 1 and 5 must be shorted with each other especially in high current applications!)"

## BTS452R
designator U?
Smart High-Side Power Switch, 1 Channel, 1.3 A Load Current, -40 to 150 degC, PG-TO252-5-11, Reel, Green; Manufacturer: Infineon; PartNumber: BTS452R; Channels: 1; Green: TRUE; Group: Automotive Qualified; Load Current (typ): 1.3 A; Ptot (max): 41.6 mW; Recommended Operating Voltage Max.: 52 V; Recommended Operating Voltage Min.: 6 V; RON @ 25degreesC: 150 mOhm; RON(max) @ 150degreesC: 270 mOhm; toff (max): 200 us; ton (max): 180 us; DatasheetVersion: Rev. 1.1; PackageVersion: Nov-10; PackageReference: PG-TO252-5-11; PackageDescription: 5-Pin Plastic (Green) Transistor Single Outline Package, 6.5 x 6.12 mm Body, 1.14 mm Pitch; Supplier 1: Mouser; Supplier Part Number 1: 726-BTS452R; Supplier 2: Newark; Supplier Part Number 2: 47W3394; Supplier 3: Farnell; Supplier Part Number 3: 2215489; Supplier 4: Digi-Key; Supplier Part Number 4: BTS452RINTR-ND; Supplier 5: Digi-Key; Supplier Part Number 5: BTS452RINCT-ND; Supplier 6: Digi-Key; Supplier Part Number 6: BTS452RINDKR-ND; Halogen-free: TRUE; Packing: Reel; Mounting Technology: Surface Mount; ComponentLink1Description: Manufacturer URL; ComponentLink1URL: http://www.infineon.com/; ComponentLink2Description: Datasheet; ComponentLink2URL: http://www.infineon.com/dgdl/BTS452R_V1+1_20070115.pdf?folderId=db3a304314dca389011537739e37155f&fileId=db3a30431ddc9372011ddd17aba80002&sId=db3a30433d68e984013d81c675c47424; ComponentLink3Description: Package Specification; ComponentLink3URL: http://www.infineon.com/dgdl/TLE7276-Data+Sheet-+v1_11.pdf?folderId=db3a304412b407950112b408e8c90004&fileId=db3a304412b407950112b436c53f66c8&sId=db3a30433db6f09f013dc0e43c0428c1
footprint INF-PG-TO252-5-11_N (DPAK, 5-Leads, Body 6.5x6.12mm, Pitch 1.14mm, IPC Medium Density)
footprint INF-PG-TO252-5-11_L (DPAK, 5-Leads, Body 6.5x6.12mm, Pitch 1.14mm, IPC High Density)
footprint INF-PG-TO252-5-11_M (DPAK, 5-Leads, Body 6.5x6.12mm, Pitch 1.14mm, IPC Low Density)
pins: 1 GND (power) "Logic ground.", 2 IN (in) "Input, activates the power switch in case of logical signal.", 3 VBB (power) "Positive power supply voltage, the tab is shorted to this pin", 4 ST (oc) "Diagnostic feedback", 5 OUT (power) "Output to the load."

## BTS452T
designator U?
Smart High-Side Power Switch, 1 Channel, 1.3 A Load Current, -40 to 150 degC, PG-TO252-5-11, Reel, Green; Manufacturer: Infineon; PartNumber: BTS452T; Channels: 1; Green: TRUE; Group: Automotive Qualified; Load Current (typ): 1.3 A; Ptot (max): 41.6 W; Recommended Operating Voltage Max.: 52 V; Recommended Operating Voltage Min.: 6 V; RON @ 25degreesC: 200 mOhm; RON(max) @ 150degreesC: 380 mOhm; toff (max): 200 us; ton (max): 180 us; DatasheetVersion: Rev. 1.1; PackageVersion: Nov-10; PackageReference: PG-TO252-5-11; PackageDescription: 5-Pin Plastic (Green) Transistor Single Outline Package, 6.5 x 6.12 mm Body, 1.14 mm Pitch; Supplier 1: Mouser; Supplier Part Number 1: 726-BTS452T; Supplier 2: Digi-Key; Supplier Part Number 2: BTS452TTR-ND; Supplier 3: Digi-Key; Supplier Part Number 3: BTS452TCT-ND; Supplier 4: Digi-Key; Supplier Part Number 4: BTS452TDKR-ND; Halogen-free: TRUE; Packing: Reel; Mounting Technology: Surface Mount; ComponentLink1Description: Manufacturer URL; ComponentLink1URL: http://www.infineon.com/; ComponentLink2Description: Datasheet; ComponentLink2URL: http://www.infineon.com/dgdl/BTS452T_2007_09_03.pdf?folderId=db3a304314dca389011537739e37155f&fileId=db3a30431b3e89eb011b7eb28e351545&location=en.Products.Automotive_ICs.Smart_High-_and_Low-Side_Switches.PROFET__-_Smart_High_Side_Switches.DATASHEET.BTS452T_2007_09_03.pdf; ComponentLink3Description: Package Specification; ComponentLink3URL: http://www.infineon.com/dgdl/TLE7276-Data+Sheet-+v1_11.pdf?folderId=db3a304412b407950112b408e8c90004&fileId=db3a304412b407950112b436c53f66c8&sId=db3a30433db6f09f013dc0e43c0428c1
footprint INF-PG-TO252-5-11_N (DPAK, 5-Leads, Body 6.5x6.12mm, Pitch 1.14mm, IPC Medium Density)
footprint INF-PG-TO252-5-11_L (DPAK, 5-Leads, Body 6.5x6.12mm, Pitch 1.14mm, IPC High Density)
footprint INF-PG-TO252-5-11_M (DPAK, 5-Leads, Body 6.5x6.12mm, Pitch 1.14mm, IPC Low Density)
pins: 1 GND (power) "Logic ground.", 2 IN (in) "Input, activates the power switch in case of logical high signal.", 3 VBB (power) "Positive power supply voltage.", 4 NC "Not connected.", 5 OUT (power) "Output to the load."

## BTS462T
designator U?
Smart High-Side Power Switch, 1 Channel, 4.4 A Load Current, -40 to 150 degC, PG-TO252-5-11, Reel, Green; Manufacturer: Infineon; PartNumber: BTS462T; Channels: 1; Green: TRUE; Group: Automotive Qualified; Load Current (typ): 4.4 A; Ptot (max): 41.6 W; Recommended Operating Voltage Max.: 34 V; Recommended Operating Voltage Min.: 5 V; RON @ 25degreesC: 100 mOhm; RON(max) @ 150degreesC: 200 mOhm; toff (max): 230 us; ton (max): 170 us; DatasheetVersion: Rev. 1.1; PackageVersion: Nov-10; PackageReference: PG-TO252-5-11; PackageDescription: 5-Pin Plastic (Green) Transistor Single Outline Package, 6.5 x 6.12 mm Body, 1.14 mm Pitch; Supplier 1: Mouser; Supplier Part Number 1: 726-BTS462T; Supplier 2: Newark; Supplier Part Number 2: 78X4833; Supplier 3: Farnell; Supplier Part Number 3: 2432491; Supplier 4: Digi-Key; Supplier Part Number 4: BTS462TINTR-ND; Supplier 5: Digi-Key; Supplier Part Number 5: BTS462TINCT-ND; Supplier 6: Digi-Key; Supplier Part Number 6: BTS462TINDKR-ND; Halogen-free: TRUE; Packing: Reel; Mounting Technology: Surface Mount; ComponentLink1Description: Manufacturer URL; ComponentLink1URL: http://www.infineon.com/; ComponentLink2Description: Datasheet; ComponentLink2URL: http://www.infineon.com/dgdl/BTS462T.pdf?folderId=db3a304314dca389011537739e37155f&fileId=db3a30431b3e89eb011b7ebc0f3e1559&location=en.Products.Automotive_ICs.Smart_High-_and_Low-Side_Switches.PROFET__-_Smart_High_Side_Switches.DATASHEET.BTS462T.pdf; ComponentLink3Description: Package Specification; ComponentLink3URL: http://www.infineon.com/dgdl/TLE7276-Data+Sheet-+v1_11.pdf?folderId=db3a304412b407950112b408e8c90004&fileId=db3a304412b407950112b436c53f66c8&sId=db3a30433db6f09f013dc0e43c0428c1
footprint INF-PG-TO252-5-11_N (DPAK, 5-Leads, Body 6.5x6.12mm, Pitch 1.14mm, IPC Medium Density)
footprint INF-PG-TO252-5-11_L (DPAK, 5-Leads, Body 6.5x6.12mm, Pitch 1.14mm, IPC High Density)
footprint INF-PG-TO252-5-11_M (DPAK, 5-Leads, Body 6.5x6.12mm, Pitch 1.14mm, IPC Low Density)
pins: 1 GND (power) "Logic ground.", 2 IN (in) "Input, activates the power switch in case of logical high signal.", 3 VBB (power) "Positive power supply voltage.", 4 NC "Not connected.", 5 OUT (power) "Output to the load."